# EAGLE library part MCP3008T-I/SL (library MCP3008)
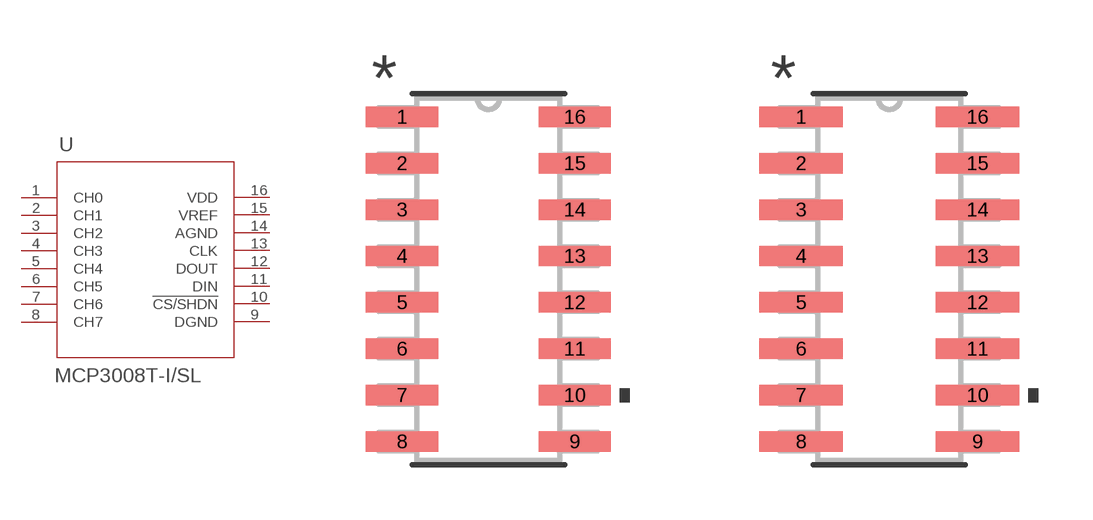
[diagram p0: symbol with the pads of SOIC16-N_MC_MCH; footprints SOIC16-N_MC_MCH, SOIC16-N_MC_MCH-M]

Designator prefix U

## MCP3008T-I/SL (COPYRIGHT: Copyright (C) 2021 Ultra Librarian. All rights reserved.; MANUFACTURER_PART_NUMBER: MCP3008T-I/SL; MFR_NAME: Microchip)  [SOIC16-N_MC_MCH]
1  CH0  pas
2  CH1  pas
3  CH2  pas
4  CH3  pas
5  CH4  pas
6  CH5  pas
7  CH6  pas
8  CH7  pas
9  DGND  pas
10  !CS/SHDN  pas
11  DIN  pas
12  DOUT  pas
13  CLK  pas
14  AGND  pas
15  VREF  pas
16  VDD  pas

## MCP3008T-I/SLSOIC16-N_MC_MCH-M (COPYRIGHT: Copyright (C) 2021 Ultra Librarian. All rights reserved.; MANUFACTURER_PART_NUMBER: MCP3008T-I/SL; MFR_NAME: Microchip)  [SOIC16-N_MC_MCH-M]
Pads as for SOIC16-N_MC_MCH

## MCP3008T-I/SLSOIC16-N_MC_MCH-L (COPYRIGHT: Copyright (C) 2021 Ultra Librarian. All rights reserved.; MANUFACTURER_PART_NUMBER: MCP3008T-I/SL; MFR_NAME: Microchip)  [SOIC16-N_MC_MCH-L]
Pads as for SOIC16-N_MC_MCH

## Footprint SOIC16-N_MC_MCH (pad centres in mm)
smd 1.981 x 0.559: 1 -2.362,4.445; 2 -2.362,3.175; 3 -2.362,1.905; 4 -2.362,0.635; 5 -2.362,-0.635; 6 -2.362,-1.905; 7 -2.362,-3.175; 8 -2.362,-4.445; 9 2.362,-4.445; 10 2.362,-3.175; 11 2.362,-1.905; 12 2.362,-0.635; 13 2.362,0.635; 14 2.362,1.905; 15 2.362,3.175; 16 2.362,4.445

## Footprint SOIC16-N_MC_MCH-M (pad centres in mm)
smd 2.286 x 0.559: 1 -2.413,4.445; 2 -2.413,3.175; 3 -2.413,1.905; 4 -2.413,0.635; 5 -2.413,-0.635; 6 -2.413,-1.905; 7 -2.413,-3.175; 8 -2.413,-4.445; 9 2.413,-4.445; 10 2.413,-3.175; 11 2.413,-1.905; 12 2.413,-0.635; 13 2.413,0.635; 14 2.413,1.905; 15 2.413,3.175; 16 2.413,4.445

## Footprint SOIC16-N_MC_MCH-L (pad centres in mm)
smd 1.676 x 0.508: 1 -2.311,4.445; 2 -2.311,3.175; 3 -2.311,1.905; 4 -2.311,0.635; 5 -2.311,-0.635; 6 -2.311,-1.905; 7 -2.311,-3.175; 8 -2.311,-4.445; 9 2.311,-4.445; 10 2.311,-3.175; 11 2.311,-1.905; 12 2.311,-0.635; 13 2.311,0.635; 14 2.311,1.905; 15 2.311,3.175; 16 2.311,4.445